# EAGLE library part ACT2801CQL-T (library ACT2801CQL-T)
Battery Management 1.5A Powerbanlk IC with 0.55 MHz Boot switching. Also has builtin flash light driver (LED Driver), but no thermal protection for battery <https://componentsearchengine.com/Images/1/ACT2801CQL-T.jpg> Source: Datasheet <http://www.active-semi.com/sheets/ACT2801_Datasheet.pdf>
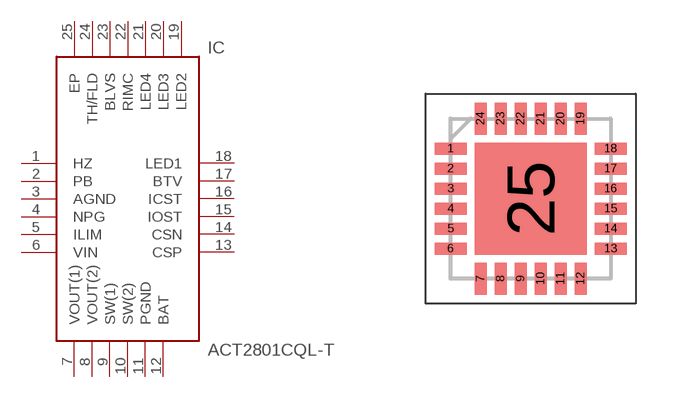
[diagram p0: symbol with the pads of QFN50P400X400X100-25N; footprint QFN50P400X400X100-25N]

Designator prefix IC

## ACT2801CQL-T (Description: Battery Management 1.5A Powerbanlk IC with 0.55 MHz Boot switching. Also has builtin flash light driver (LED Driver), but no thermal protection for battery; Height: 1mm; Manufacturer_Name: Active-Semi; Manufacturer_Part_Number: ACT2801CQL-T; Supplier_Name: RS)  [QFN50P400X400X100-25N]
1  HZ  in
2  PB  in
3  AGND  in
4  NPG  in
5  ILIM  in
6  VIN  in
7  VOUT(1)  in
8  VOUT(2)  in
9  SW(1)  in
10  SW(2)  in
11  PGND  in
12  BAT  in
13  CSP  in
14  CSN  in
15  IOST  in
16  ICST  in
17  BTV  in
18  LED1  in
19  LED2  in
20  LED3  in
21  LED4  in
22  RIMC  in
23  BLVS  in
24  TH/FLD  in
25  EP  in

## Footprint QFN50P400X400X100-25N (pad centres in mm)
QFN44-24
smd 0.8 x 0.3: 1 -2,1.25; 2 -2,0.75; 3 -2,0.25; 4 -2,-0.25; 5 -2,-0.75; 6 -2,-1.25; 13 2,-1.25; 14 2,-0.75; 15 2,-0.25; 16 2,0.25; 17 2,0.75; 18 2,1.25
smd 0.3 x 0.8: 7 -1.25,-2; 8 -0.75,-2; 9 -0.25,-2; 10 0.25,-2; 11 0.75,-2; 12 1.25,-2; 19 1.25,2; 20 0.75,2; 21 0.25,2; 22 -0.25,2; 23 -0.75,2; 24 -1.25,2
smd 2.8 x 2.8: 25 0,0